# EAGLE library part TC74HC08APF (library TC74HC08APF)
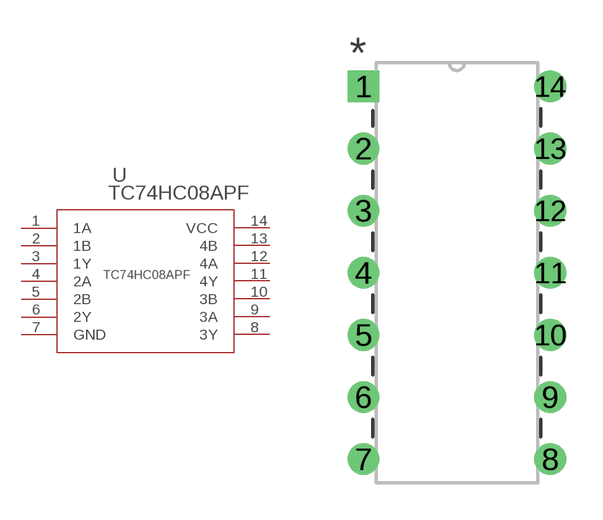
[diagram p0: symbol with the pads of 14-DIP; footprint 14-DIP]

Designator prefix U

## TC74HC08APF  [14-DIP]
1  1A  in
2  1B  in
3  1Y  in
4  2A  in
5  2B  in
6  2Y  out
7  GND  out
8  3Y  in
9  3A  in
10  3B  in
11  4Y  in
12  4A  out
13  4B  out
14  VCC  pwr

## Footprint 14-DIP (pad centres in mm)
drill 0.787 pad 1.295 square: 1 0,0
drill 0.787 pad 1.295: 2 0,-2.54; 3 0,-5.08; 4 0,-7.62; 5 0,-10.16; 6 0,-12.7; 7 0,-15.24; 8 7.62,-15.24; 9 7.62,-12.7; 10 7.62,-10.16; 11 7.62,-7.62; 12 7.62,-5.08; 13 7.62,-2.54; 14 7.62,0